# EAGLE library part ATTINY2313 (library old-4ms-main-parts)
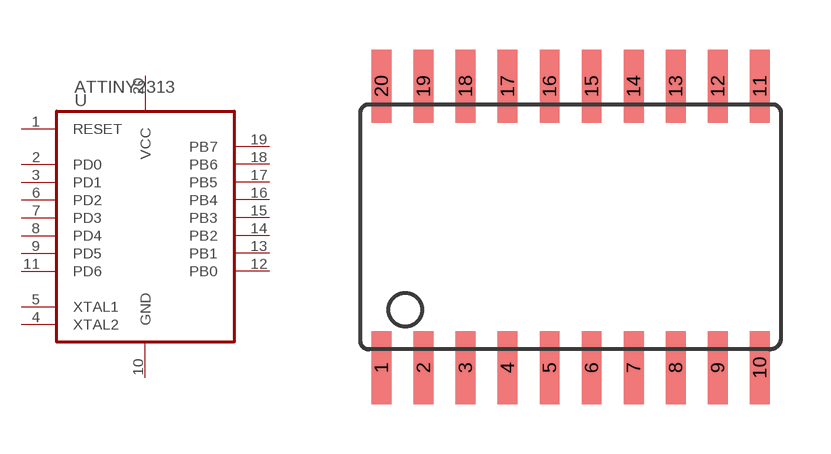
[diagram p25: symbol with the pads of SO20W; footprint SO20W]

Designator prefix U

## ATTINY2313A-SU  [SO20W]
1  RESET
2  PD0
3  PD1
4  XTAL2
5  XTAL1
6  PD2
7  PD3
8  PD4
9  PD5
10  GND  pwr
11  PD6
12  PB0
13  PB1
14  PB2
15  PB3
16  PB4
17  PB5
18  PB6
19  PB7
20  VCC  pwr

## Footprint SO20W (pad centres in mm)
smd 0.6 x 2.2: 1 -5.715,-4.25; 2 -4.445,-4.25; 3 -3.175,-4.25; 4 -1.905,-4.25; 5 -0.635,-4.25; 6 0.635,-4.25; 7 1.905,-4.25; 8 3.175,-4.25; 9 4.445,-4.25; 10 5.715,-4.25; 11 5.715,4.25; 12 4.445,4.25; 13 3.175,4.25; 14 1.905,4.25; 15 0.635,4.25; 16 -0.635,4.25; 17 -1.905,4.25; 18 -3.175,4.25; 19 -4.445,4.25; 20 -5.715,4.25